# EAGLE library part L80-R (library Underwater-Camera-v2.0)
L80-R - Quectel GPS
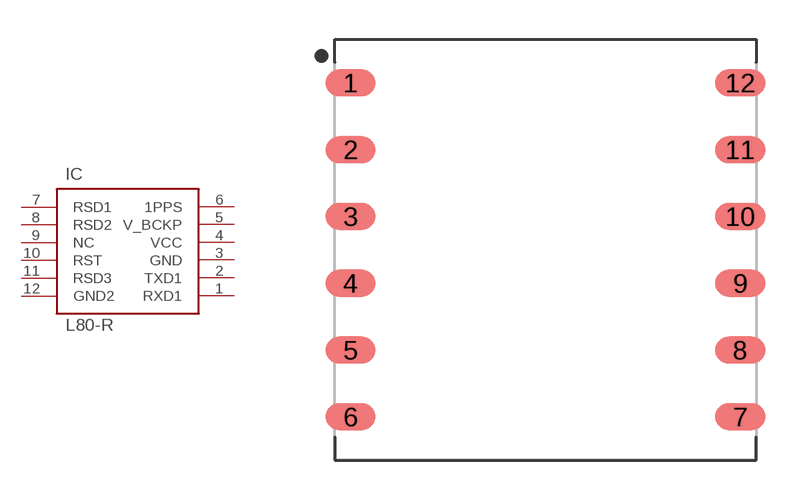
[diagram p10: symbol with the pads of SON254P1600X1600X700-12; footprint SON254P1600X1600X700-12]

Designator prefix IC

## L80-R16X16MM  [SON254P1600X1600X700-12]
1  RXD1
2  TXD1
3  GND
4  VCC
5  V_BCKP
6  1PPS
7  RSD1
8  RSD2
9  NC
10  RST
11  RSD3
12  GND2

## Footprint SON254P1600X1600X700-12 (pad centres in mm)
12-SON, 2.54 mm pitch, 16.00 X 16.00 X 7.00 mm body 12-pin SON package with 2.54 mm pitch with body size 16.00 X 16.00 X 7.00 mm
smd 1.912 x 1.032: 1 -7.4,6.35; 2 -7.4,3.81; 3 -7.4,1.27; 4 -7.4,-1.27; 5 -7.4,-3.81; 6 -7.4,-6.35; 7 7.4,-6.35; 8 7.4,-3.81; 9 7.4,-1.27; 10 7.4,1.27; 11 7.4,3.81; 12 7.4,6.35